# Altium schematic symbol library Schematic_Library_AMS_IMD.SchLib: 5 symbols
Pins are listed as number, name and electrical type; pins without a type are passive.

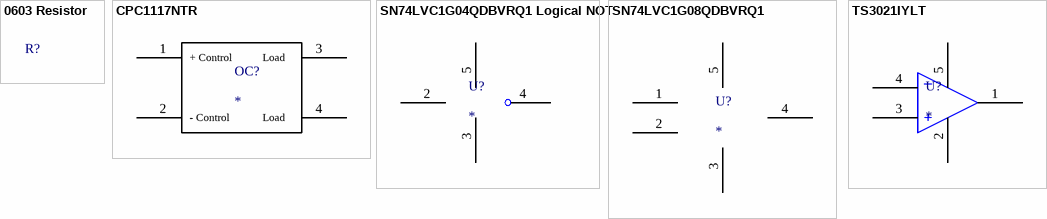
[diagram p0: symbols 0603 Resistor to TS3021IYLT]

## 0603 Resistor
designator R?  (value not drawn)
footprint R0603

## CPC1117NTR
designator OC?
footprint SOP-4 (CPC1117NTR)
pins: 1, 2, 3, 4
text: + Control; Load; - Control

## SN74LVC1G04QDBVRQ1 Logical NOT
designator U?
footprint SOT23-5 - SN74LVC1G04QDBVRQ1 - SOT95P280X145-5N (SOT23, 5-Leads, Body 2.90x2.80mm, Pitch 0.95mm, IPC Medium Density)
pins: 2, 3, 4, 5

## SN74LVC1G08QDBVRQ1
designator U?
footprint SOT23 - SN74LVC1G08QDBVRQ1 - (SOT95P280X145-5N) (SOT23, 5-Leads, Body 2.92x2.80mm, Pitch 0.95mm, IPC Medium Density)
pins: 1, 2, 3, 4, 5

## TS3021IYLT
designator U?
footprint SOT23 - TS3021IYLT - SOT95P280X145-5N (SOT23, 5-Leads, Body 2.90x2.80mm, Pitch 0.95mm, IPC Medium Density)
pins: 1, 2, 3, 4, 5
text: _; +